# Altium footprint library PCB_LIB.PcbLib: 60 footprints (part 4 of 4)
Each footprint in its own frame and in the unit in brackets; x right, y up, seen from the top. Pads: shape width x height; smd on the part's side, far side on the other; paste and mask are expansions set on the pad; w line width, h text height; cw(c..) or ccw(c..) is an arc to the next point about the centre after c.
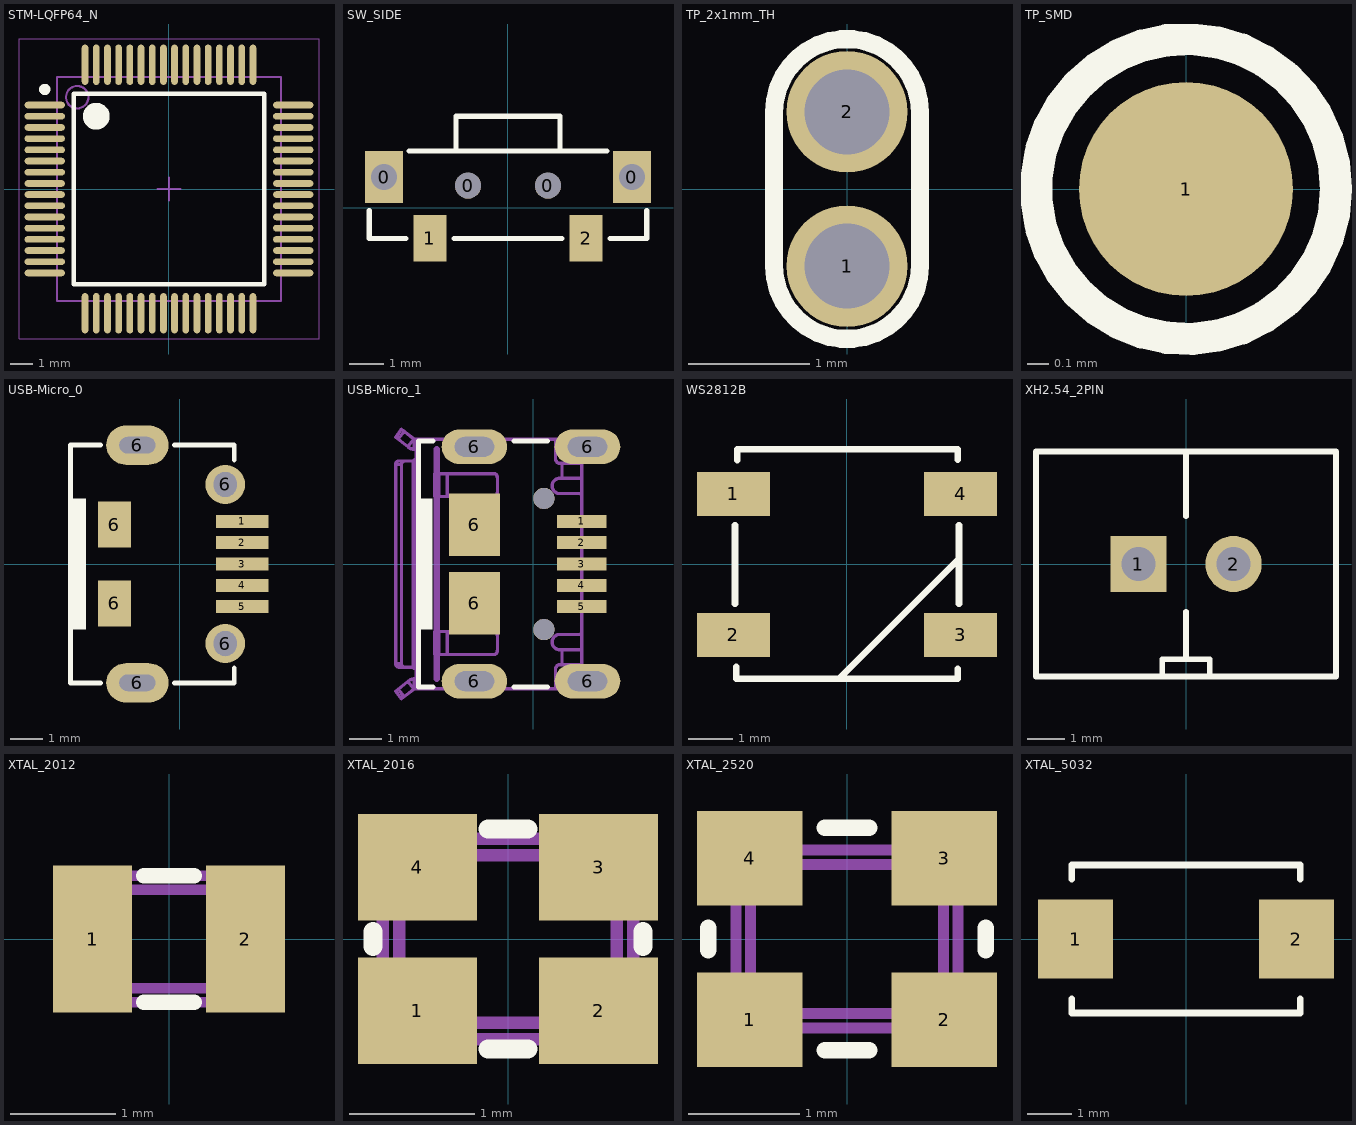
[diagram p3: the footprints below, top view; thin cyan lines are the x and y axes]

## STM-LQFP64_N [mm] "Thin QFP, 64-Leads, Body 10x10mm, Pitch 0.5mm, IPC Medium Density"
height 1.6
pads (64):
  oval 1.8x0.3 smd: 1(-5.55,3.75) 2(-5.55,3.25) 3(-5.55,2.75) 4(-5.55,2.25) 5(-5.55,1.75) 6(-5.55,1.25) 7(-5.55,0.75) 8(-5.55,0.25) 9(-5.55,-0.25) 10(-5.55,-0.75) 11(-5.55,-1.25) 12(-5.55,-1.75) 13(-5.55,-2.25) 14(-5.55,-2.75) 15(-5.55,-3.25) 16(-5.55,-3.75) 33(5.55,-3.75) 34(5.55,-3.25) 35(5.55,-2.75) 36(5.55,-2.25) 37(5.55,-1.75) 38(5.55,-1.25) 39(5.55,-0.75) 40(5.55,-0.25) 41(5.55,0.25) 42(5.55,0.75) 43(5.55,1.25) 44(5.55,1.75) 45(5.55,2.25) 46(5.55,2.75) 47(5.55,3.25) 48(5.55,3.75)
  oval 0.3x1.8 smd: 17(-3.75,-5.55) 18(-3.25,-5.55) 19(-2.75,-5.55) 20(-2.25,-5.55) 21(-1.75,-5.55) 22(-1.25,-5.55) 23(-0.75,-5.55) 24(-0.25,-5.55) 25(0.25,-5.55) 26(0.75,-5.55) 27(1.25,-5.55) 28(1.75,-5.55) 29(2.25,-5.55) 30(2.75,-5.55) 31(3.25,-5.55) 32(3.75,-5.55) 49(3.75,5.55) 50(3.25,5.55) 51(2.75,5.55) 52(2.25,5.55) 53(1.75,5.55) 54(1.25,5.55) 55(0.75,5.55) 56(0.25,5.55) 57(-0.25,5.55) 58(-0.75,5.55) 59(-1.25,5.55) 60(-1.75,5.55) 61(-2.25,5.55) 62(-2.75,5.55) 63(-3.25,5.55) 64(-3.75,5.55)
Top Overlay:
  circle w0.6: c-3.25,3.25 r0.3
  circle w0.25: c-5.55,4.45 r0.125
  lines w0.2: -4.25,-4.25 4.25,-4.25 4.25,4.25 -4.25,4.25 -4.25,-4.25
Mechanical 13:
  circle w0.1: c-4.1,4.1 r0.5
  lines w0.1: -5,-5 5,-5 5,5 -5,5 -5,-5
Mechanical 15:
  lines w0.05: -6.7,-6.7 6.7,-6.7 6.7,6.7 -6.7,6.7 -6.7,-6.7
  lines w0.1: -0.5,0 0.5,0 ; 0,-0.5 0,0.5
3D body: height 1.6, standoff 0.05, extent -5,-5 5,5

## SW_SIDE [mm]
pads (6):
  rect 1.1x1.5 hole 0.75: 0(-3.575,0.885) 0(3.575,0.885)
  round 0.75 hole 0.75: 0(-1.15,0.635) 0(1.15,0.635)
  rect 0.95x1.34 smd: 1(-2.25,-0.885) 2(2.25,-0.885)
Top Overlay:
  lines w0.15: -4,-0.085 -4,-0.885 -2.95,-0.885 ; -2.85,1.635 2.85,1.635 ; -1.55,-0.885 1.55,-0.885 ; -1.5,1.635 -1.5,2.635 1.5,2.635 1.5,1.635 ; 2.95,-0.885 4,-0.885 4,-0.085

## TP_2x1mm_TH [mm]
pads (2):
  round 1 hole 0.7: 1(0,-0.635) 2(0,0.635)
Top Overlay:
  lines w0.15: -0.6,-0.635 ccw(c0,-0.635) 0.6,-0.635 0.6,0.635 ccw(c0,0.635) -0.6,0.635 -0.6,-0.635

## TP_SMD [mm]
pads (1):
  round 1 smd paste-5: 1(0,0)
Top Overlay:
  circle w0.15: c0,0 r0.7

## USB-Micro_0 [mm]
pads (11):
  rect 1.6x0.4 smd: 1(1.9,1.3) 2(1.9,0.65) 3(1.9,0) 4(1.9,-0.65) 5(1.9,-1.3)
  rect 1x1.4 smd: 6(-2,-1.2) 6(-2,1.2)
  oval 1.9x1.2 hole 0.5 slot 1.1 at 0 deg: 6(-1.3,-3.625) 6(-1.3,3.625)
  round 1.2 hole 0.7 slot 0.762 at 90 deg: 6(1.38,-2.425) 6(1.38,2.425)
Top Overlay:
  rectangle: -3.371,-2 -2.871,2
  lines w0.15: -3.345,-3.625 -2.425,-3.625 ; -3.345,3.625 -2.425,3.625 ; -0.175,-3.625 1.655,-3.625 1.655,-3.17 ; -0.175,3.625 1.655,3.625 1.655,3.17
  lines w0.152: -3.345,-3.625 -3.345,3.625
3D body "User Library-MicroUSB-B_Molex_105017-0001.step": height 2.72, standoff -0.59, extent -3.857,-4.103 1.573,4.097

## USB-Micro_1 [mm]
pads (13):
  rect 1.5x0.4 smd: 1(1.488,1.3) 2(1.488,0.65) 3(1.488,0) 4(1.488,-0.65) 5(1.488,-1.3)
  oval 2x1.05 hole 0.6 slot 1.2 at 0 deg: 6(-1.787,-3.575) 6(-1.787,3.575) 6(1.663,-3.575) 6(1.663,3.575)
  rect 1.55x1.9 smd: 6(-1.787,-1.2) 6(-1.787,1.2)
  round 0.65 hole 0.65: ""(0.333,-2) ""(0.333,2)
Top Overlay:
  rectangle: -3.562,-2 -3.062,2
  lines w0.15: -3.487,-3.75 -3.048,-3.75 ; -3.487,3.75 -3.048,3.75 ; -0.587,-3.75 0.45,-3.75 ; -0.587,3.75 0.45,3.75
  lines w0.152: -3.487,-3.75 -3.487,3.75
Mechanical 7:
  drawing of 2738 lines, arcs and shapes, not listed
Mechanical 15:
  lines w0.2: -2.937,-3.5 -2.937,3.5
3D body "User Library-Micro USB.step": height 2.67, standoff -0.27, extent -3.923,-3.99 1.507,3.99

## WS2812B [mm]
pads (4):
  rect 1.651x1 smd: 1(-2.577,1.6) 2(-2.577,-1.6) 3(2.577,-1.6) 4(2.577,1.6)
Top Overlay:
  lines w0.15: -2.54,-0.889 -2.54,0.889 ; -2.51,-2.319 -2.51,-2.591 -2.507,-2.593 2.51,-2.593 2.51,-2.367 ; -2.489,2.362 -2.489,2.611 2.512,2.611 2.512,2.38 ; -0.165,-2.578 2.54,0.127 ; 2.54,-0.889 2.54,0.889
3D body "WS2812B.STEP": height 1.55, standoff -0.02, extent -2.7,-2.5 2.7,2.5

## XH2.54_2PIN [mm] "Battery; 2 Leads"
pads (2):
  rect 1.5x1.5 hole 0.9: 1(-1.27,0)
  round 1.5 hole 0.9: 2(1.27,0)
Top Overlay:
  lines w0.15: -0.635,-3 -0.635,-2.54 0.635,-2.54 0.635,-3 ; 0,-2.54 0,-1.27 ; 0,1.27 0,3 ; -4,-3 4,-3 4,3 -4,3 -4,-3
3D body "User Library-XH2_54_2PIN.step": height 7, standoff -4, extent -4,-2.977 4,3.023

## XTAL_2012 [mm]
pads (2):
  rect 0.75x1.4 smd: 1(-0.725,0) 2(0.725,0)
Top Overlay:
  lines w0.15: -0.24,-0.6 0.24,-0.6 ; -0.24,0.6 0.24,0.6
Mechanical 7:
  lines w0.1: -1,-0.5 cw(c-1,-0.6) -0.9,-0.6 0.9,-0.6 cw(c1,-0.6) 1,-0.5 1,0.5 cw(c1,0.6) 0.9,0.6 -0.9,0.6 cw(c-1,0.6) -1,0.5 -1,-0.5 ; -0.87,-0.37 ccw(c-0.77,-0.37) -0.77,-0.47 0.77,-0.47 ccw(c0.77,-0.37) 0.87,-0.37 0.87,0.37 ccw(c0.77,0.37) 0.77,0.47 -0.77,0.47 ccw(c-0.77,0.37) -0.87,0.37 -0.87,-0.37
3D body "User Library-ABS06.STEP": height 0.6, standoff 0, extent -1,-0.61 1,0.61
3D body: height 0.6, standoff 0.15, extent -0.825,-0.4 0.825,0.4

## XTAL_2016 [mm]
pads (4):
  rect 0.95x0.85 smd: 1(-0.725,-0.575) 2(0.725,-0.575) 3(0.725,0.575) 4(-0.725,0.575)
Top Overlay:
  lines w0.15: -1.08,-0.06 -1.08,0.06 ; -0.16,-0.88 0.16,-0.88 ; -0.16,0.88 0.16,0.88 ; 1.08,-0.06 1.08,0.06
Mechanical 7:
  lines w0.1: -1,-0.7 cw(c-1,-0.8) -0.9,-0.8 0.9,-0.8 cw(c1,-0.8) 1,-0.7 1,0.7 cw(c1,0.8) 0.9,0.8 -0.9,0.8 cw(c-1,0.8) -1,0.7 -1,-0.7 ; -0.87,-0.57 ccw(c-0.77,-0.57) -0.77,-0.67 0.77,-0.67 ccw(c0.77,-0.57) 0.87,-0.57 0.87,0.57 ccw(c0.77,0.57) 0.77,0.67 -0.77,0.67 ccw(c-0.77,0.57) -0.87,0.57 -0.87,-0.57
3D body "User Library-GeyerElectronics_KX5.step": height 0.56, standoff 0, extent -1.05,-0.85 1.05,0.85
3D body: height 0.56, standoff 0.15, extent -0.7,-0.65 0.7,0.65

## XTAL_2520 [mm]
pads (4):
  rect 0.95x0.85 smd: 1(-0.875,-0.725) 2(0.875,-0.725) 3(0.875,0.725) 4(-0.875,0.725)
Top Overlay:
  lines w0.15: -1.25,-0.1 -1.25,0.1 ; -0.2,-1 0.2,-1 ; -0.2,1 0.2,1 ; 1.25,-0.1 1.25,0.1
Mechanical 7:
  lines w0.1: -1,-0.7 cw(c-1,-0.8) -0.9,-0.8 0.9,-0.8 cw(c1,-0.8) 1,-0.7 1,0.7 cw(c1,0.8) 0.9,0.8 -0.9,0.8 cw(c-1,0.8) -1,0.7 -1,-0.7 ; -0.87,-0.57 ccw(c-0.77,-0.57) -0.77,-0.67 0.77,-0.67 ccw(c0.77,-0.57) 0.87,-0.57 0.87,0.57 ccw(c0.77,0.57) 0.77,0.67 -0.77,0.67 ccw(c-0.77,0.57) -0.87,0.57 -0.87,-0.57
3D body: height 0.56, standoff 0.15, extent -0.7,-0.65 0.7,0.65
3D body "User Library-GeyerElectronics_KX5.step": height 0.56, standoff 0, extent -1.05,-0.85 1.05,0.85

## XTAL_5032 [mm]
pads (2):
  rect 1.7x1.8 smd: 1(-2.5,0) 2(2.5,0)
Top Overlay:
  lines w0.15: -2.591,-1.35 -2.591,-1.676 2.591,-1.676 2.591,-1.35 ; -2.591,1.35 -2.591,1.676 2.591,1.676 2.591,1.35
3D body "XTAL_5032.STEP": height 1.3, standoff 0, extent -2.5,-1.6 2.5,1.6